# Altium footprint library YaoPCB.PCBLIB: 415 footprints (part 6 of 26)
Each footprint in its own frame and in the unit in brackets; x right, y up, seen from the top. Pads: shape width x height; smd on the part's side, far side on the other; paste and mask are expansions set on the pad; w line width, h text height; cw(c..) or ccw(c..) is an arc to the next point about the centre after c.
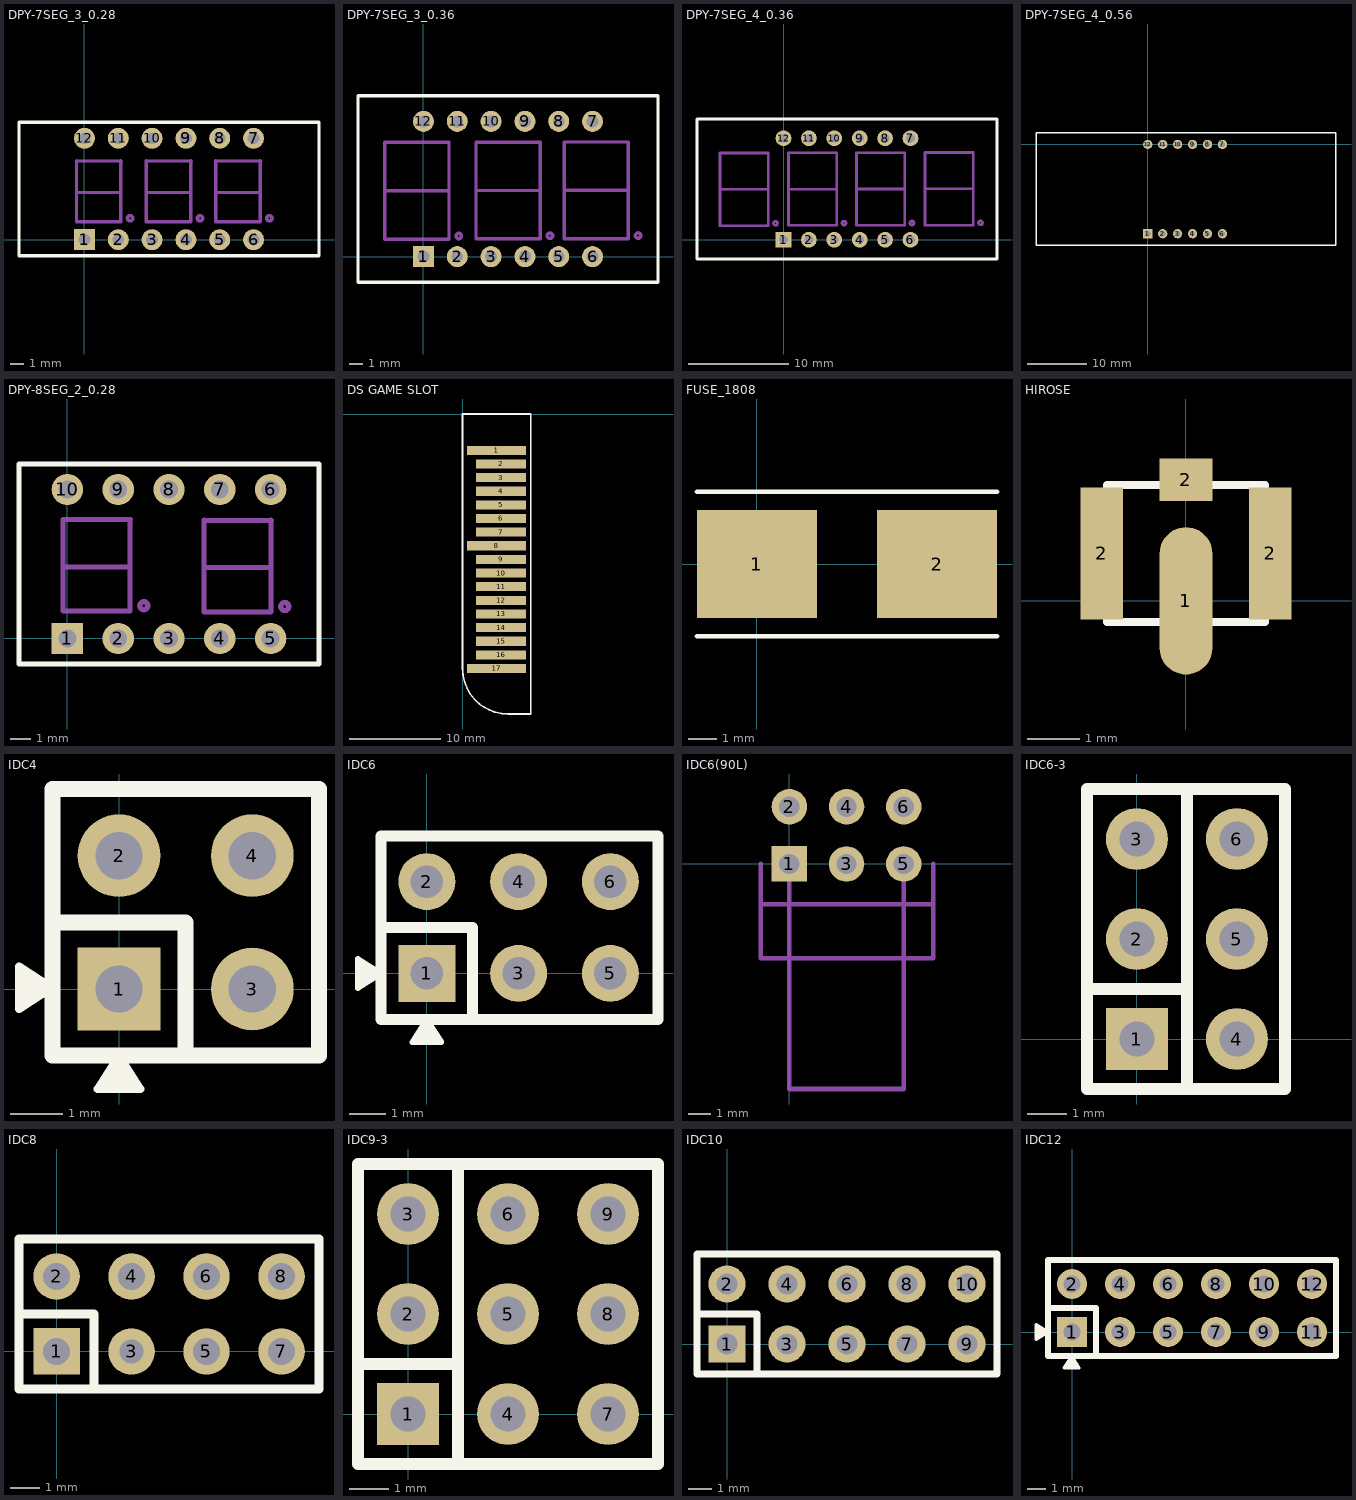
[diagram p5: the footprints below, top view; thin cyan lines are the x and y axes]

## DPY-7SEG_3_0.28 [mil]
pads (12):
  rect 62x62 hole 35: 1(0,0)
  round 62 hole 35: 2(100,0) 3(200,0) 4(300,0) 5(400,0) 6(500,0) 7(500,300) 8(400,300) 9(300,300) 10(200,300) 11(100,300) 12(0,300)
TopOverlay:
  lines w10: -193.5,-46.85 -193.5,346.85 693.5,346.85 693.5,-46.85 -193.5,-46.85
Mechanical15:
  circle w10: c341.68,63.39 r7.92
  circle w10: c546.8,63.39 r7.92
  circle w10: c134.99,63.39 r7.92
  lines w10: -23.62,139.76 106.69,139.76 ; -23.62,232.68 109.06,232.68 ; -23.62,233.46 -23.62,52.76 107.87,52.76 107.87,233.46 ; 183.07,139.76 313.39,139.76 ; 183.07,232.68 315.75,232.68 ; 183.07,233.46 183.07,52.76 314.57,52.76 314.57,233.46 ; 388.19,139.76 518.5,139.76 ; 388.19,232.68 520.87,232.68 ; 388.19,233.46 388.19,52.76 519.68,52.76 519.68,233.46

## DPY-7SEG_3_0.36 [mil]
pads (12):
  rect 62x62 hole 35: 1(0,0)
  round 62 hole 35: 2(100,0) 3(200,0) 4(300,0) 5(400,0) 6(500,0) 7(500,400) 8(400,400) 9(300,400) 10(200,400) 11(100,400) 12(0,400)
TopOverlay:
  lines w10: -193.5,-75.59 -193.5,475.59 ; -192.91,-75.59 693.5,-75.59 693.5,475.59 -192.91,475.59
Mechanical15:
  circle w10: c104.28,61.02 r7.92
  circle w10: c634.6,62.2 r7.92
  circle w10: c373.97,61.81 r7.92
  lines w10: -114.17,194.88 75.59,194.88 ; 155.51,195.67 345.28,195.67 ; 416.14,196.06 605.91,196.06 ; -114.17,51.97 -114.17,337.8 75.59,337.8 75.59,51.97 -114.17,51.97 ; 155.51,52.76 345.28,52.76 345.28,338.58 155.51,338.58 155.51,52.76 ; 416.14,53.15 416.14,338.98 605.91,338.98 605.91,53.15 416.14,53.15

## DPY-7SEG_4_0.36 [mil]
pads (12):
  rect 62x62 hole 35: 1(0,0)
  round 62 hole 35: 2(100,0) 3(200,0) 4(300,0) 5(400,0) 6(500,0) 7(500,400) 8(400,400) 9(300,400) 10(200,400) 11(100,400) 12(0,400)
TopOverlay:
  lines w10: -340.55,-75.59 840.55,-75.59 840.55,475.59 -340.55,475.59 -340.55,-75.59
Mechanical15:
  circle w10: c-31.55,64.96 r7.92
  circle w10: c238.14,65.75 r7.92
  circle w10: c775.54,66.93 r7.92
  circle w10: c505.86,66.14 r7.92
  lines w10: -250,198.82 -60.24,198.82 ; 19.68,199.61 209.45,199.61 ; 287.4,200 477.17,200 ; 557.09,200.79 746.85,200.79 ; -250,55.91 -250,341.73 -60.24,341.73 -60.24,55.91 -250,55.91 ; 19.68,56.69 209.45,56.69 209.45,342.52 19.68,342.52 19.68,56.69 ; 287.4,57.09 477.17,57.09 477.17,342.91 287.4,342.91 287.4,57.09 ; 557.09,57.87 557.09,343.7 746.85,343.7 746.85,57.87 557.09,57.87

## DPY-7SEG_4_0.56 [mil]
pads (12):
  rect 62x62 hole 35: 1(0,-598.43)
  round 62 hole 35: 2(100,-598.43) 3(200,-598.42) 4(300,-598.43) 5(400,-598.43) 6(500,-598.43) 7(500,-1) 8(400,-1) 9(300,-1) 10(200,-1) 11(100,-1) 12(0,-1)
TopOverlay:
  lines w10: -748.03,-677.17 1259.84,-677.17 1259.84,78.74 -748.03,78.74 -748.03,-677.17

## DPY-8SEG_2_0.28 [mil]
pads (10):
  rect 62x62 hole 35: 1(0,0)
  round 62 hole 35: 2(100,0) 3(200,0) 4(300,0) 5(400,0) 6(400,293.31) 7(300,293.31) 8(200,293.31) 9(100,293.31) 10(0,293.31)
TopOverlay:
  lines w10: -95.28,-50.2 495.28,-50.2 495.28,343.5 -95.28,343.5 -95.28,-50.2
Mechanical15:
  circle w10: c150.34,64.57 r7.92
  circle w10: c427.9,62.99 r7.92
  lines w10: -8.27,140.94 122.05,140.94 ; -8.27,233.86 124.41,233.86 ; -8.27,234.65 -8.27,53.94 123.23,53.94 123.23,234.65 ; 269.29,139.37 399.61,139.37 ; 269.29,232.28 401.97,232.28 ; 269.29,233.07 269.29,52.36 400.79,52.36 400.79,233.07

## DS GAME SLOT [mm]
pads (17):
  rect 6.5x1 smd: 1(3.75,-3.995) 8(3.75,-14.495) 17(3.75,-27.995)
  rect 5.5x1 smd: 2(4.25,-5.495) 3(4.25,-6.995) 4(4.25,-8.495) 5(4.25,-9.995) 6(4.25,-11.495) 7(4.25,-12.995) 9(4.25,-15.995) 10(4.25,-17.495) 11(4.25,-18.995) 12(4.25,-20.495) 13(4.25,-21.995) 14(4.25,-23.495) 15(4.25,-24.995) 16(4.25,-26.495)
TopOverlay:
  lines w0.178: 7.5,-0.025 7.5,-33 5,-33 cw(c5,-28) 0,-28 0,0 7.5,0

## FUSE_1808 [mm]
pads (2):
  rect 4.24x3.81 smd: 1(0,0) 2(6.38,0)
TopOverlay:
  lines w0.16: -2.12,-2.55 8.5,-2.55 ; -2.12,2.55 8.5,2.55

## HIROSE [mm]
pads (4):
  oval 1x2.8 smd: 1(0,0)
  rect 0.8x2.5 smd: 2(-1.6,0.9) 2(1.6,0.9)
  rect 1x0.8 smd: 2(0,2.3)
TopOverlay:
  lines w0.152: -1.5,-0.4 1.5,-0.4 1.5,2.2 -1.5,2.2 -1.5,-0.4

## IDC4 [mil]
pads (4):
  rect 62x62 hole 35.43: 1(0,0)
  round 62 hole 35.43: 2(0,100) 3(100,0) 4(100,100)
TopOverlay:
  lines w6: -62,1 -55,1 ; 0,-62 0,-55 ; -75,-15 -50,1 -75,17 -75,-15 ; -16,-75 0,-50 16,-75 -16,-75
  lines w10: -71,-7 -71,10 ; -64,-2 -64,5 ; -9,-71 8,-71 ; -4,-64 3,-64
  lines w12: -50,50 50,50 50,-50 ; -50,-50 -50,150 150,150 150,-50 -50,-50

## IDC6 [mil]
pads (6):
  rect 62x62 hole 35.43: 1(0,0)
  round 62 hole 35.43: 2(0,100) 3(100,0) 4(100,100) 5(200,0) 6(200,100)
TopOverlay:
  lines w6: -62,0 -55,0 ; 0,-62 0,-55 ; -75,-16 -75,16 -50,0 -75,-16 ; -16,-75 0,-50 16,-75 -16,-75
  lines w10: -71,-8 -71,9 ; -64,-3 -64,4 ; -9,-71 8,-71 ; -4,-64 3,-64
  lines w12: -50,50 50,50 50,-50 ; -50,-50 -50,150 251.97,150 251.97,-50 -50,-50

## IDC6(90L) [mil]
pads (6):
  rect 62x62 hole 35.43: 1(0,0)
  round 62 hole 35.43: 2(0,100) 3(100,0) 4(100,100) 5(200,0) 6(200,100)
Mechanical15:
  lines w7.87: -50,-70.87 251.57,-70.87 ; -50,0 -50,-165.35 251.57,-165.35 251.57,0 ; 0,0 0,-393.7 200,-393.7 200,0

## IDC6-3 [mil]
pads (6):
  rect 62x62 hole 35.43: 1(0,0)
  round 62 hole 35.43: 2(0,100) 3(0,200) 4(100,0) 5(100,100) 6(100,200)
TopOverlay:
  lines w12: -50,50 50,50 ; 50,-50 50,50 ; 50,250 50,50 ; -50,-50 148.03,-50 148.03,250 -50,250 -50,-50

## IDC8 [mil]
pads (8):
  rect 62x62 hole 35.43: 1(0,0)
  round 62 hole 35.43: 2(0,100) 4(100,100) 5(200,0) 6(200,100) 7(300,0) 8(300,100)
  round 62 hole 32: 3(100,0)
TopOverlay:
  lines w12: -50,50 50,50 50,-50 ; -50,-50 350,-50 350,150 -50,150 -50,-50

## IDC9-3 [mil]
pads (9):
  rect 62x62 hole 35.43: 1(0,0)
  round 62 hole 35.43: 2(0,100) 3(0,200) 4(100,0) 5(100,100) 6(100,200) 7(200,0) 8(200,100) 9(200,200)
TopOverlay:
  lines w12: -50,50 50,50 ; 50,-50 50,50 ; 50,250 50,50 ; -50,-50 -50,250 250,250 250,-50 -50,-50

## IDC10 [mil]
pads (10):
  rect 62x62 hole 35.43: 1(0,0)
  round 62 hole 35.43: 2(0,100) 3(100,0) 4(100,100) 5(200,0) 6(200,100) 7(300,0) 8(300,100) 9(400,0) 10(400,100)
TopOverlay:
  lines w12: -50,50 50,50 50,-50 ; -50,-50 450,-50 450,150 -50,150 -50,-50

## IDC12 [mil]
pads (12):
  rect 62x62 hole 35.43: 1(0,0)
  round 62 hole 35.43: 2(0,100) 3(100,0) 4(100,100) 5(200,0) 6(200,100) 7(300,0) 8(300,100) 9(400,0) 10(400,100) 11(500,0) 12(500,100)
TopOverlay:
  lines w6: -62,0 -55,0 ; -1,-62 -1,-55 ; -75,-16 -75,16 -50,0 -75,-16 ; -17,-75 15,-75 -1,-50 -17,-75
  lines w10: -71,-8 -71,9 ; -64,-3 -64,4 ; -10,-71 7,-71 ; -5,-64 2,-64
  lines w12: -50,50 50,50 50,-50 ; 550,-50.39 550,149.61 ; 550,-50 -50,-50 -50,150 550,150